# EAGLE library part NDS9936 (library custom)
N-Channel MOSFET Dual 30V 5A Logic Level 50mOhm
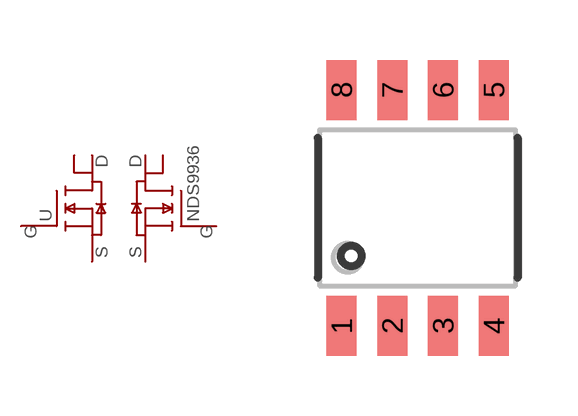
[diagram p20: symbol with the pads of 8-SOIC; footprint 8-SOIC]

Designator prefix -

## NDS9936  [8-SOIC]
1  S1  pas
2  G1  in
3  S2  pas
4  G2  in
5  D2.1  pas
6  D2.2  pas
7  D1.1  pas
8  D1.2  pas

## Footprint 8-SOIC (pad centres in mm)
smd 0.75 x 1.5: 1 -1.905,-2.95; 2 -0.635,-2.95; 3 0.635,-2.95; 4 1.905,-2.95; 5 1.905,2.95; 6 0.635,2.95; 7 -0.635,2.95; 8 -1.905,2.95